# EAGLE library part MMC (library con-yamaichi-cf)
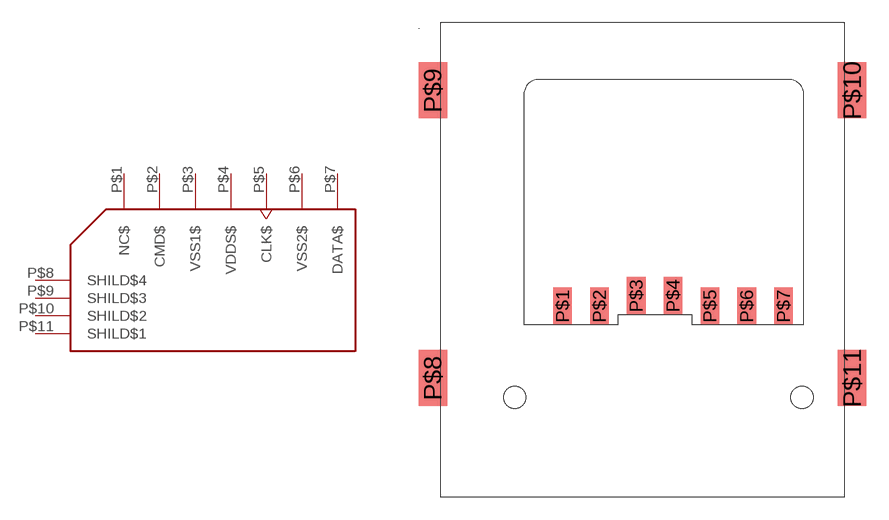
[diagram p1: symbol with the pads of FLS007-2323-0; footprint FLS007-2323-0]

Designator prefix -

## MMCMMC  [FLS007-2323-0]
P$1  NC$  nc
P$2  CMD$
P$3  VSS1$  sup
P$4  VDDS$  sup
P$5  CLK$  in
P$6  VSS2$  sup
P$7  DATA$
P$8  SHILD$4  nc
P$9  SHILD$3  nc
P$10  SHILD$2  nc
P$11  SHILD$1  nc

## Footprint FLS007-2323-0 (pad centres in mm)
smd 1.27 x 2.54: P$1 -15,1.256; P$2 -12.5,1.256; P$3 -10,1.956; P$4 -7.5,1.956; P$5 -5,1.256; P$6 -2.5,1.256; P$7 0,1.256
smd 1.93 x 3.81: P$8 -23.809,-3.639; P$9 -23.81,15.911; P$10 4.66,15.911; P$11 4.66,-3.64
hole 1.5 at 1.25,-4.94
hole 1.5 at -18.25,-4.94